# Altium footprint library SOT-5X3-5.PCBLIB: 1 footprints
Each footprint in its own frame and in the unit in brackets; x right, y up, seen from the top. Pads: shape width x height; smd on the part's side, far side on the other; paste and mask are expansions set on the pad; w line width, h text height; cw(c..) or ccw(c..) is an arc to the next point about the centre after c.
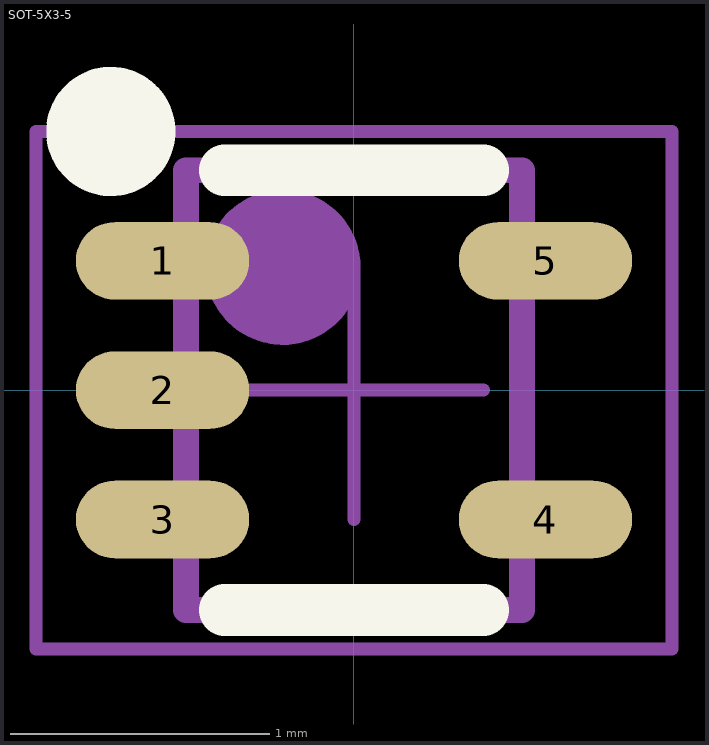
[diagram p0: the footprint, top view; thin cyan lines are the x and y axes]

## SOT-5X3-5 [mm]
height 0.6
pads (5):
  oval 0.67x0.3 smd: 1(-0.74,0.5) 2(-0.74,0) 3(-0.74,-0.5) 4(0.74,-0.5) 5(0.74,0.5)
Top Overlay:
  circle w0.25: c-0.94,1 r0.125
  lines w0.2: -0.5,-0.85 0.5,-0.85 ; -0.5,0.85 0.5,0.85
Top Assembly:
  circle w0.3: c-0.275,0.475 r0.15
  lines w0.1: -0.65,-0.85 -0.65,0.85 0.65,0.85 0.65,-0.85 -0.65,-0.85
Top Courtyard:
  lines w0.05: -1.23,-1 -1.23,1 1.23,1 1.23,-1 -1.23,-1
Top Designator:
  text ".Designator" at -1.143,1.143 h1
Top Component Center:
  lines w0.05: -0.5,0 0.5,0 ; 0,-0.5 0,0.5
3D body "SOT-665.STEP": height 0.6, standoff 0, extent -0.85,-0.85 0.85,0.85